# EAGLE library part UBO_PQ60_NCP706AMX300TAG (library EPS)
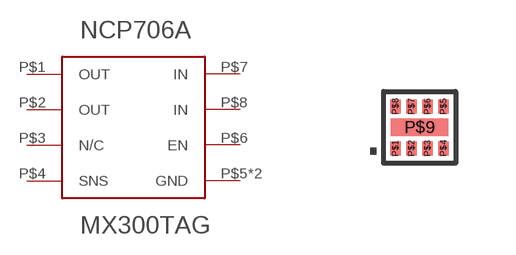
[diagram p8: symbol with the pads of UBO_PQ60_XDFN8; footprint UBO_PQ60_XDFN8]

Designator prefix -

## UBO_PQ60_NCP706AMX300TAG  [UBO_PQ60_XDFN8]
P$1  OUT
P$2  OUT
P$3  N/C
P$4  SNS
P$5  GND
P$6  EN
P$7  IN
P$8  IN
P$9  GND

## Footprint UBO_PQ60_XDFN8 (pad centres in mm)
smd 0.26 x 0.35: P$1 -0.6,-0.525; P$2 -0.2,-0.525; P$3 0.2,-0.525; P$4 0.6,-0.525; P$5 0.6,0.525; P$6 0.2,0.525; P$7 -0.2,0.525; P$8 -0.6,0.525
smd 1.44 x 0.44: P$9 0,0